# Altium footprint library PcbLib1.PcbLib: 51 footprints (part 1 of 4)
Each footprint in its own frame and in the unit in brackets; x right, y up, seen from the top. Pads: shape width x height; smd on the part's side, far side on the other; paste and mask are expansions set on the pad; w line width, h text height; cw(c..) or ccw(c..) is an arc to the next point about the centre after c.
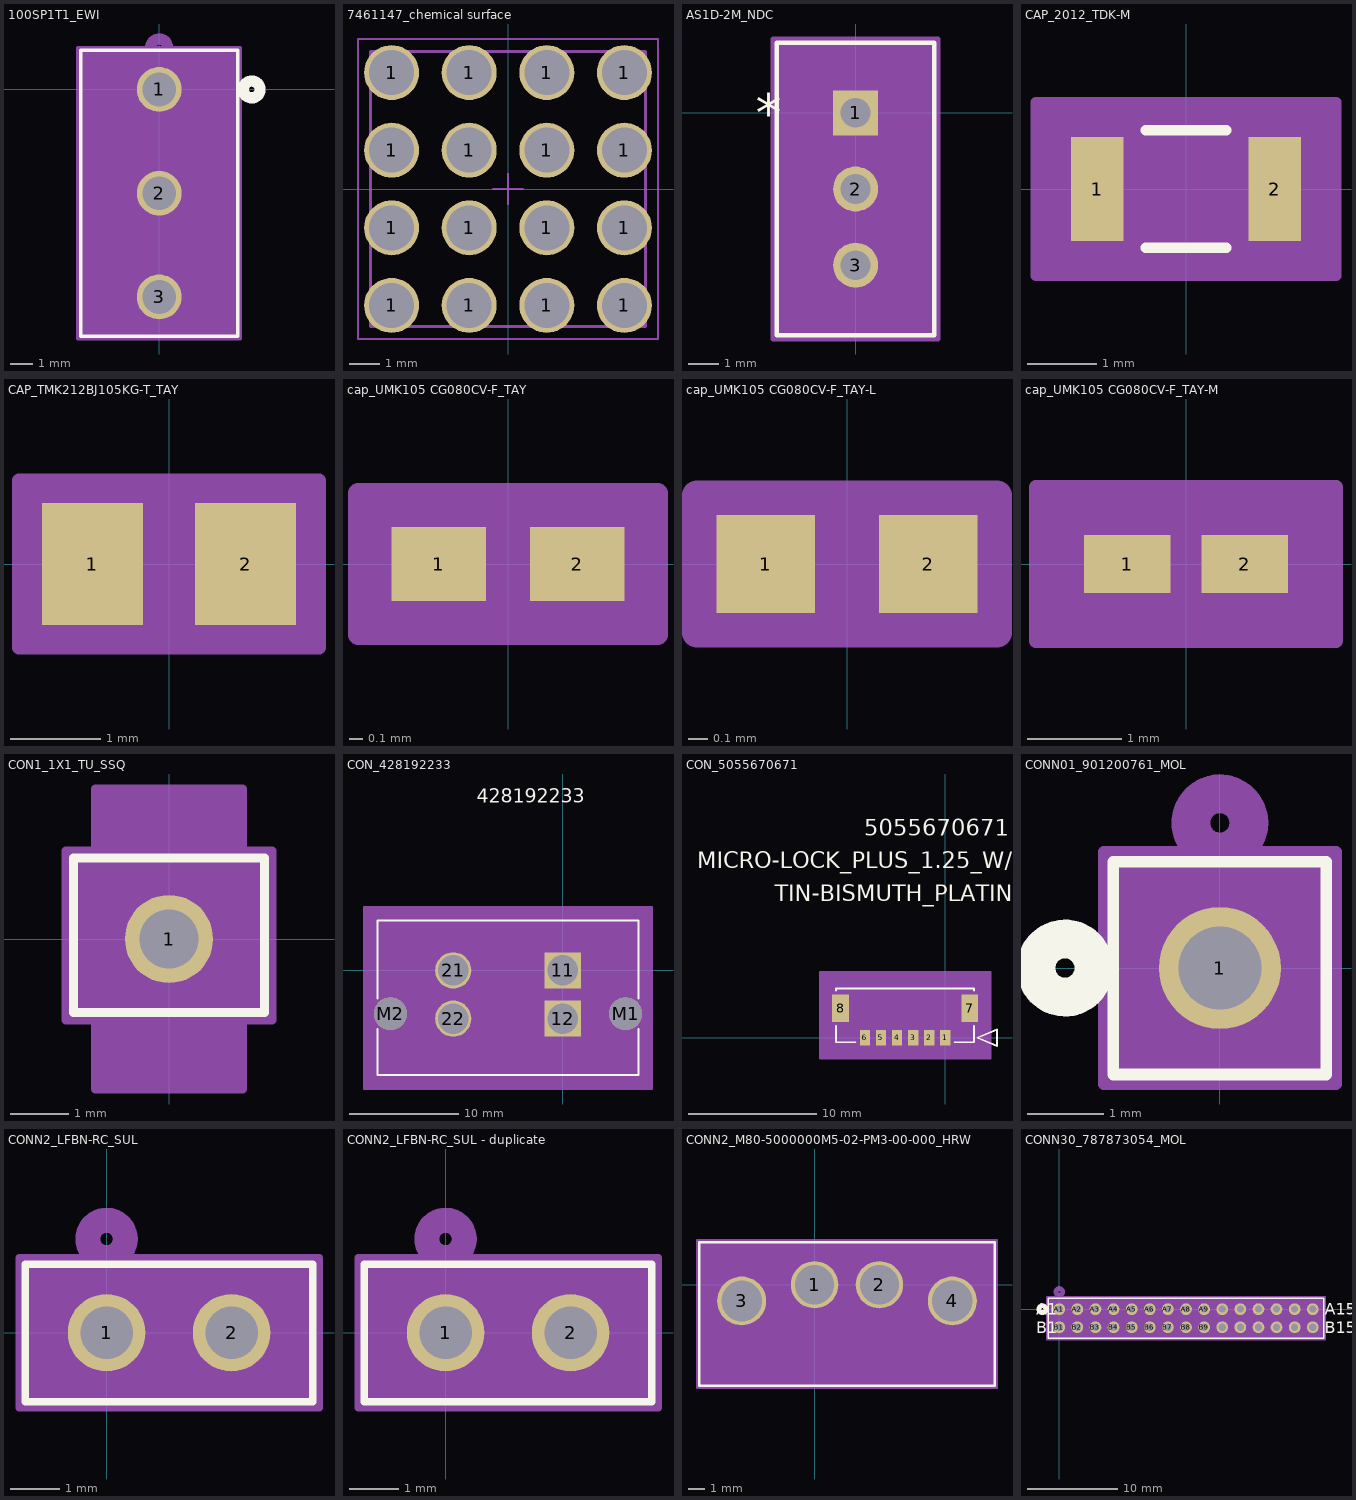
[diagram p0: the footprints below, top view; thin cyan lines are the x and y axes]

## 100SP1T1_EWI [mil]
pads (3):
  round 80 / inner round 60 / far side round 80 hole 60 paste-99999 mask+0: 1(0,0) 2(0,-185.04) 3(0,-370.08)
Top Overlay:
  circle w20: c165,0 r15
  lines w6: -140,-440.04 -140,69.96 140,69.96 140,-440.04 -140,-440.04
Bottom Overlay:
  circle w20: c165,0 r15
Mechanical 13:
  circle w20: c0,75 r15
  lines w1: -135,-435.04 -135,64.96 135,64.96 135,-435.04 -135,-435.04
Mechanical 15:
  region: 145,74.96 -145,74.96 -145,-445.04 145,-445.04
  lines w6: -145,-445.04 145,-445.04 145,74.96 -145,74.96 -145,-445.04

## 7461147_chemical surface [mm] "M5, blind 4mm"
height 7
pads (16):
  round 1.8 hole 1.475: 1(-3.81,-3.81) 1(-3.81,-1.27) 1(-3.81,1.27) 1(-3.81,3.81) 1(-1.27,-3.81) 1(-1.27,-1.27) 1(-1.27,1.27) 1(-1.27,3.81) 1(1.27,-3.81) 1(1.27,-1.27) 1(1.27,1.27) 1(1.27,3.81) 1(3.81,-3.81) 1(3.81,-1.27) 1(3.81,1.27) 1(3.81,3.81)
Top 3D Body:
  lines w0.1: -4.5,-4.5 -4.5,4.5 4.5,4.5 4.5,-4.5 -4.5,-4.5
Top Courtyard:
  lines w0.05: -0.5,0 0.5,0 ; 0,-0.5 0,0.5 ; -4.91,-4.91 4.91,-4.91 4.91,4.91 -4.91,4.91 -4.91,-4.91
Top Designator:
  text ".Designator" at -7.498,-0.5 h1.5
Top Component Outline:
  lines w0.1: -4.5,-4.5 4.5,-4.5 4.5,4.5 -4.5,4.5 -4.5,-4.5
3D body "7461147.stp": height 7, standoff -3.5, extent -4.5,-4.5 4.5,4.5

## AS1D-2M_NDC [mil]
pads (3):
  rect 59x59 / inner round 60 / far side rect 59x59 hole 39 paste-99999 mask+0: 1(0,0)
  round 59 / inner round 60 / far side round 59 hole 39 paste-99999 mask+0: 2(0,-100) 3(0,-200)
Top Overlay:
  lines w6: -103.5,-292 -103.5,92 103.5,92 103.5,-292 -103.5,-292
  text "*" at -131,-25 h50
Mechanical 13:
  region: 43.5,-186.5 -43.5,-186.5 -43.5,-100 43.5,-100
  lines w1: -98.5,-287 -98.5,87 98.5,87 98.5,-287 -98.5,-287 ; -43.5,-186.5 43.5,-186.5 43.5,-13.5 -43.5,-13.5 -43.5,-186.5
  text "*" at -96,-25 h50
Mechanical 15:
  region: 108.5,-297 -108.5,-297 -108.5,97 108.5,97
  lines w6: -108.5,-297 -108.5,97 108.5,97 108.5,-297 -108.5,-297

## CAP_2012_TDK-M [mil]
pads (2):
  rect 30x59 smd paste+0 mask+0: 1(-50.5,0) 2(50.5,0)
Top Overlay:
  lines w6: -23.03,-33.5 23.03,-33.5 ; -23.03,33.5 23.03,33.5
Mechanical 13:
  circle w0: c-45.5,0 r3
  lines w1: -43.5,-28.5 -43.5,28.5 ; -43.5,-28.5 -35.5,-28.5 -35.5,28.5 -43.5,28.5 ; -43.5,-28.5 43.5,-28.5 ; -43.5,-28.5 -43.5,28.5 ; -43.5,28.5 43.5,28.5 ; 43.5,-28.5 35.5,-28.5 35.5,28.5 43.5,28.5 ; 43.5,-28.5 43.5,28.5 ; 43.5,-28.5 43.5,28.5
Mechanical 15:
  region: 85.5,-49.5 -85.5,-49.5 -85.5,49.5 85.5,49.5
  lines w6: -85.5,-49.5 -85.5,49.5 85.5,49.5 85.5,-49.5 -85.5,-49.5
3D body "CAP_2012_TDK.step": height 49.02, standoff 0, extent -43.5,-28.5 43.5,28.5

## CAP_TMK212BJ105KG-T_TAY [mil]
pads (2):
  rect 44x53 smd paste+0 mask+0: 1(-33.34,0) 2(33.34,0)
Mechanical 13:
  circle w0: c-28.34,0 r3
  lines w1: -41.34,-26.5 -41.34,26.5 ; -41.34,-26.5 -11.34,-26.5 -11.34,26.5 -41.34,26.5 ; -41.34,-26.5 41.34,-26.5 ; -41.34,-26.5 -41.34,26.5 ; -41.34,26.5 41.34,26.5 ; 41.34,-26.5 11.34,-26.5 11.34,26.5 41.34,26.5 ; 41.34,-26.5 41.34,26.5 ; 41.34,-26.5 41.34,26.5
Mechanical 15:
  region: 65.34,-36.5 -65.34,-36.5 -65.34,36.5 65.34,36.5
  lines w6: -65.34,-36.5 -65.34,36.5 65.34,36.5 65.34,-36.5 -65.34,-36.5
3D body "CAP_TMK212BJ105KG-T_TAY.step": height 53.15, standoff 0, extent -41.34,-26.5 41.34,26.5

## cap_UMK105 CG080CV-F_TAY [mil]
pads (2):
  rect 28x22 smd paste+0 mask+0: 1(-20.5,0) 2(20.5,0)
Mechanical 13:
  circle w0: c-15.5,0 r3
  lines w1: -20.5,-11 -20.5,11 ; -20.5,-11 20.5,-11 ; -20.5,-11 -6.5,-11 -6.5,11 -20.5,11 ; -20.5,-11 -20.5,11 ; -20.5,11 20.5,11 ; 20.5,-11 20.5,11 ; 20.5,-11 20.5,11 ; 20.5,-11 6.5,-11 6.5,11 20.5,11
Mechanical 15:
  region: 44.5,-21 -44.5,-21 -44.5,21 44.5,21
  lines w6: -44.5,-21 44.5,-21 44.5,21 -44.5,21 -44.5,-21
3D body "cap_UMK105CG080CV-F_TAY.step": height 22.01, standoff 0, extent -20.51,-10.98 20.51,10.98

## cap_UMK105 CG080CV-F_TAY-L [mil]
pads (2):
  rect 20x20 smd paste+0 mask+0: 1(-16.5,0) 2(16.5,0)
Mechanical 13:
  circle w0: c-11.5,0 r3
  lines w1: -20.5,-11 -20.5,11 ; -20.5,-11 -6.5,-11 -6.5,11 -20.5,11 ; -20.5,-11 20.5,-11 ; -20.5,-11 -20.5,11 ; -20.5,11 20.5,11 ; 20.5,-11 6.5,-11 6.5,11 20.5,11 ; 20.5,-11 20.5,11 ; 20.5,-11 20.5,11
Mechanical 15:
  region: 30.5,-14 -30.5,-14 -30.5,14 30.5,14
  lines w6: -30.5,-14 -30.5,14 30.5,14 30.5,-14 -30.5,-14
3D body: height 10, standoff 0, extent 0,0 10,10

## cap_UMK105 CG080CV-F_TAY-M [mil]
pads (2):
  rect 36x24 smd paste+0 mask+0: 1(-24.5,0) 2(24.5,0)
Mechanical 13:
  circle w0: c-19.5,0 r3
  lines w1: -20.5,-11 -20.5,11 ; -20.5,-11 -6.5,-11 -6.5,11 -20.5,11 ; -20.5,-11 20.5,-11 ; -20.5,-11 -20.5,11 ; -20.5,11 20.5,11 ; 20.5,-11 6.5,-11 6.5,11 20.5,11 ; 20.5,-11 20.5,11 ; 20.5,-11 20.5,11
Mechanical 15:
  region: 62.5,-32 -62.5,-32 -62.5,32 62.5,32
  lines w6: -62.5,-32 -62.5,32 62.5,32 62.5,-32 -62.5,-32
3D body: height 10, standoff 0, extent 0,0 10,10

## CON1_1X1_TU_SSQ [mil]
pads (1):
  round 60 hole 40 paste-99999 mask-30: 1(0,0)
Top Overlay:
  lines w6: -65,-50 -65,55 65,55 65,-50 -65,-50
Mechanical 13:
  circle w0: c0,0 r10
  lines w1: -60,-45 -60,50 60,50 60,-45 -60,-45
Mechanical 15:
  region: 70,60 50,60 50,102 -50,102 -50,60 -70,60 -70,-55 -50,-55 -50,-102 50,-102 50,-55 70,-55
  lines w6: -70,-55 -50,-55 -50,-102 50,-102 50,-55 70,-55 70,60 50,60 50,102 -50,102 -50,60 -70,60 -70,-55

## CON_428192233 [mm]
pads (6):
  rect 3.3x3.3 / inner round 1.524 / far side rect 3.3x3.3 hole 2.8 paste-2539.97 mask+0.076: 11(0,0) 12(0,-4.4)
  round 3.3 / inner round 1.524 / far side round 3.3 hole 2.8 paste-2539.97 mask+0.076: 21(-10,0) 22(-10,-4.4)
  round 3 / inner round 1.524 / far side round 3 hole 3 unplated paste-2539.97 mask+0.076: M1(5.73,-3.95) M2(-15.73,-3.95)
Top Overlay:
  lines w0.152: -16.91,-5.332 -16.91,-9.55 6.91,-9.55 6.91,-5.332 ; -16.91,-2.568 -16.91,4.55 6.91,4.55 6.91,-2.568
  text "428192233" at -7.858,15.28 h1.27
Mechanical 13:
  lines w0.127: -16.91,-9.55 6.91,-9.55 6.91,4.55 -16.91,4.55 -16.91,-9.55
  text "428192233" at -7.858,15.28 h1.27
Mechanical 15:
  region: 8.18,5.82 -18.18,5.82 -18.18,-10.82 8.18,-10.82
  lines w0.127: -18.18,-10.82 -18.18,5.82 8.18,5.82 8.18,-10.82 -18.18,-10.82

## CON_5055670671 [mm]
pads (8):
  rect 0.8x1.2 smd paste+0 mask+0.076: 1(0,0) 2(-1.25,0) 3(-2.5,0) 4(-3.75,0) 5(-5,0) 6(-6.25,0)
  rect 1.3x2.15 smd paste+0 mask+0.076: 7(1.9,2.295) 8(-8.15,2.295)
Top Overlay:
  lines w0.152: -8.5,0.9 -8.5,-0.35 -6.97,-0.35 ; -8.5,3.69 -8.5,3.85 2.25,3.85 2.25,3.69 ; 0.72,-0.35 2.25,-0.35 2.25,0.9 ; 2.504,0 4.028,-0.635 4.028,0.635 2.504,0
  text "TIN-BISMUTH_PLATING,_BLACK_COLOR" at -13.285,10.64 h1.27
  text "MICRO-LOCK_PLUS_1.25_W/B_SR_RA_SMT_PLUG_ASSY_-6_CKT" at -19.318,13.18 h1.27
  text "5055670671" at -6.3,15.72 h1.27
Mechanical 3:
  text "MAXIMUM_PACKAGE_HEIGHT:_3.9_MM" at -8.5,-10.12 h1.27
  text "RECOMMENDED_PCB_THICKNESS:_1.6_MM" at -8.5,-7.58 h1.27
  text "NOTE" at -8.5,-5.04 h1.27
Mechanical 10:
  text "MAXIMUM_PACKAGE_HEIGHT:_3.9_MM" at -8.5,-10.12 h1.27
  text "RECOMMENDED_PCB_THICKNESS:_1.6_MM" at -8.5,-7.58 h1.27
  text "NOTE" at -8.5,-5.04 h1.27
Mechanical 13:
  lines w0.127: -8.5,-0.35 -8.5,3.85 2.25,3.85 2.25,-0.35 -8.5,-0.35 ; 2.504,0 4.028,-0.635 4.028,0.635 2.504,0
  text "TIN-BISMUTH_PLATING,_BLACK_COLOR" at -13.285,10.64 h1.27
  text "MICRO-LOCK_PLUS_1.25_W/B_SR_RA_SMT_PLUG_ASSY_-6_CKT" at -19.318,13.18 h1.27
  text "5055670671" at -6.3,15.72 h1.27
Mechanical 15:
  region: 3.52,5.12 -9.77,5.12 -9.77,-1.62 3.52,-1.62
  lines w0.127: -9.77,-1.62 3.52,-1.62 3.52,5.12 -9.77,5.12 -9.77,-1.62

## CONN01_901200761_MOL [mil]
pads (1):
  round 63 / inner round 60 / far side round 63 hole 43 paste-99999 mask+0: 1(0,0)
Top Overlay:
  circle w20: c-80,0 r15
  lines w6: -55,-55 -55,55 55,55 55,-55 -55,-55
Bottom Overlay:
  circle w20: c-80,0 r15
Mechanical 13:
  circle w20: c0,75 r15
  lines w1: -50,-50 -50,50 50,50 50,-50 -50,-50
Mechanical 15:
  region: 60,60 -60,60 -60,-60 60,-60
  lines w6: -60,-60 60,-60 60,60 -60,60 -60,-60

## CONN2_LFBN-RC_SUL [mil]
pads (2):
  round 62 / inner round 60 / far side round 62 hole 42 paste-99999 mask+0: 1(0,0) 2(100,0)
Top Overlay:
  lines w6: -65,-55 -65,55 165,55 165,-55 -65,-55
Mechanical 13:
  circle w20: c0,75 r15
  lines w1: -60,-50 -60,50 160,50 160,-50 -60,-50
Mechanical 15:
  region: 170,60 -70,60 -70,-60 170,-60
  lines w6: -70,-60 170,-60 170,60 -70,60 -70,-60

## CONN2_LFBN-RC_SUL - duplicate [mil]
pads (2):
  round 62 / inner round 60 / far side round 62 hole 42 paste-99999 mask+0: 1(0,0) 2(100,0)
Top Overlay:
  lines w6: -65,-55 165,-55 165,55 -65,55 -65,-55
Mechanical 13:
  circle w20: c0,75 r15
  lines w1: -60,-50 160,-50 160,50 -60,50 -60,-50
Mechanical 15:
  region: 170,60 -70,60 -70,-60 170,-60
  lines w6: -70,-60 -70,60 170,60 170,-60 -70,-60

## CONN2_M80-5000000M5-02-PM3-00-000_HRW [mil]
pads (4):
  round 115 / inner round 60 / far side round 115 hole 95 paste-99999 mask+0: 1(0,0) 2(157.48,0)
  round 119 / inner round 60 / far side round 119 hole 99 paste-99999 mask-59.5: 3(-177.17,-39.37) 4(334.65,-39.37)
Top Overlay:
  lines w6: -280.76,-245.57 438.24,-245.57 438.24,103.43 -280.76,103.43 -280.76,-245.57
Mechanical 13:
  circle w20: c0,75 r15
  lines w1: -275.76,-240.57 433.24,-240.57 433.24,98.43 -275.76,98.43 -275.76,-240.57
Mechanical 15:
  region: 443.24,108.43 -285.76,108.43 -285.76,-250.57 443.24,-250.57
  lines w6: -285.76,-250.57 -285.76,108.43 443.24,108.43 443.24,-250.57 -285.76,-250.57

## CONN30_787873054_MOL [mil]
pads (30):
  round 51 / inner round 60 / far side round 51 hole 31 paste-99999 mask+0: A1(0,0) A2(78.74,0) A3(157.48,0) A4(236.22,0) A5(314.96,0) A6(393.7,0) A7(472.44,0) A8(551.18,0) A9(629.92,0) A10(708.66,0) A11(787.4,0) A12(866.14,0) A13(944.88,0) A14(1023.62,0) A15(1102.36,0) B1(0,-78.74) B2(78.74,-78.74) B3(157.48,-78.74) B4(236.22,-78.74) B5(314.96,-78.74) B6(393.7,-78.74) B7(472.44,-78.74) B8(551.18,-78.74) B9(629.92,-78.74) B10(708.66,-78.74) B11(787.4,-78.74) B12(866.14,-78.74) B13(944.88,-78.74) B14(1023.62,-78.74) B15(1102.36,-78.74)
Top Overlay:
  circle w20: c-73.32,0 r15
  lines w6: -48.32,-126.89 1150.68,-126.89 1150.68,48.11 -48.32,48.11 -48.32,-126.89
  text "A1" at -101,-25 h50
  text "B1" at -101,-103.74 h50
  text "A15" at 1153.36,-25 h50
  text "B15" at 1153.36,-103.74 h50
Bottom Overlay:
  circle w20: c-73.32,0 r15
  text "A1" at -51,-25 h50
  text "B1" at -51,-103.74 h50
  text "A15" at 1228.36,-25 h50
  text "B15" at 1228.36,-103.74 h50
Mechanical 13:
  circle w20: c0,75 r15
  lines w1: -43.32,-121.89 1145.68,-121.89 1145.68,43.11 -43.32,43.11 -43.32,-121.89
  text "A1" at -101,-25 h50
  text "B1" at -101,-103.74 h50
  text "A15" at 1153.36,-25 h50
  text "B15" at 1153.36,-103.74 h50
Mechanical 15:
  region: 1155.68,53.11 -53.32,53.11 -53.32,-131.89 1155.68,-131.89
  region: 1145.68,43.11 -43.32,43.11 -43.32,-121.89 1145.68,-121.89
  lines w6: -53.32,-131.89 -53.32,53.11 1155.68,53.11 1155.68,-131.89 -53.32,-131.89